# Altium footprint library ATK_DNESP32S3 V1.0.PcbLib: 41 footprints (part 2 of 3)
Each footprint in its own frame and in the unit in brackets; x right, y up, seen from the top. Pads: shape width x height; smd on the part's side, far side on the other; paste and mask are expansions set on the pad; w line width, h text height; cw(c..) or ccw(c..) is an arc to the next point about the centre after c.
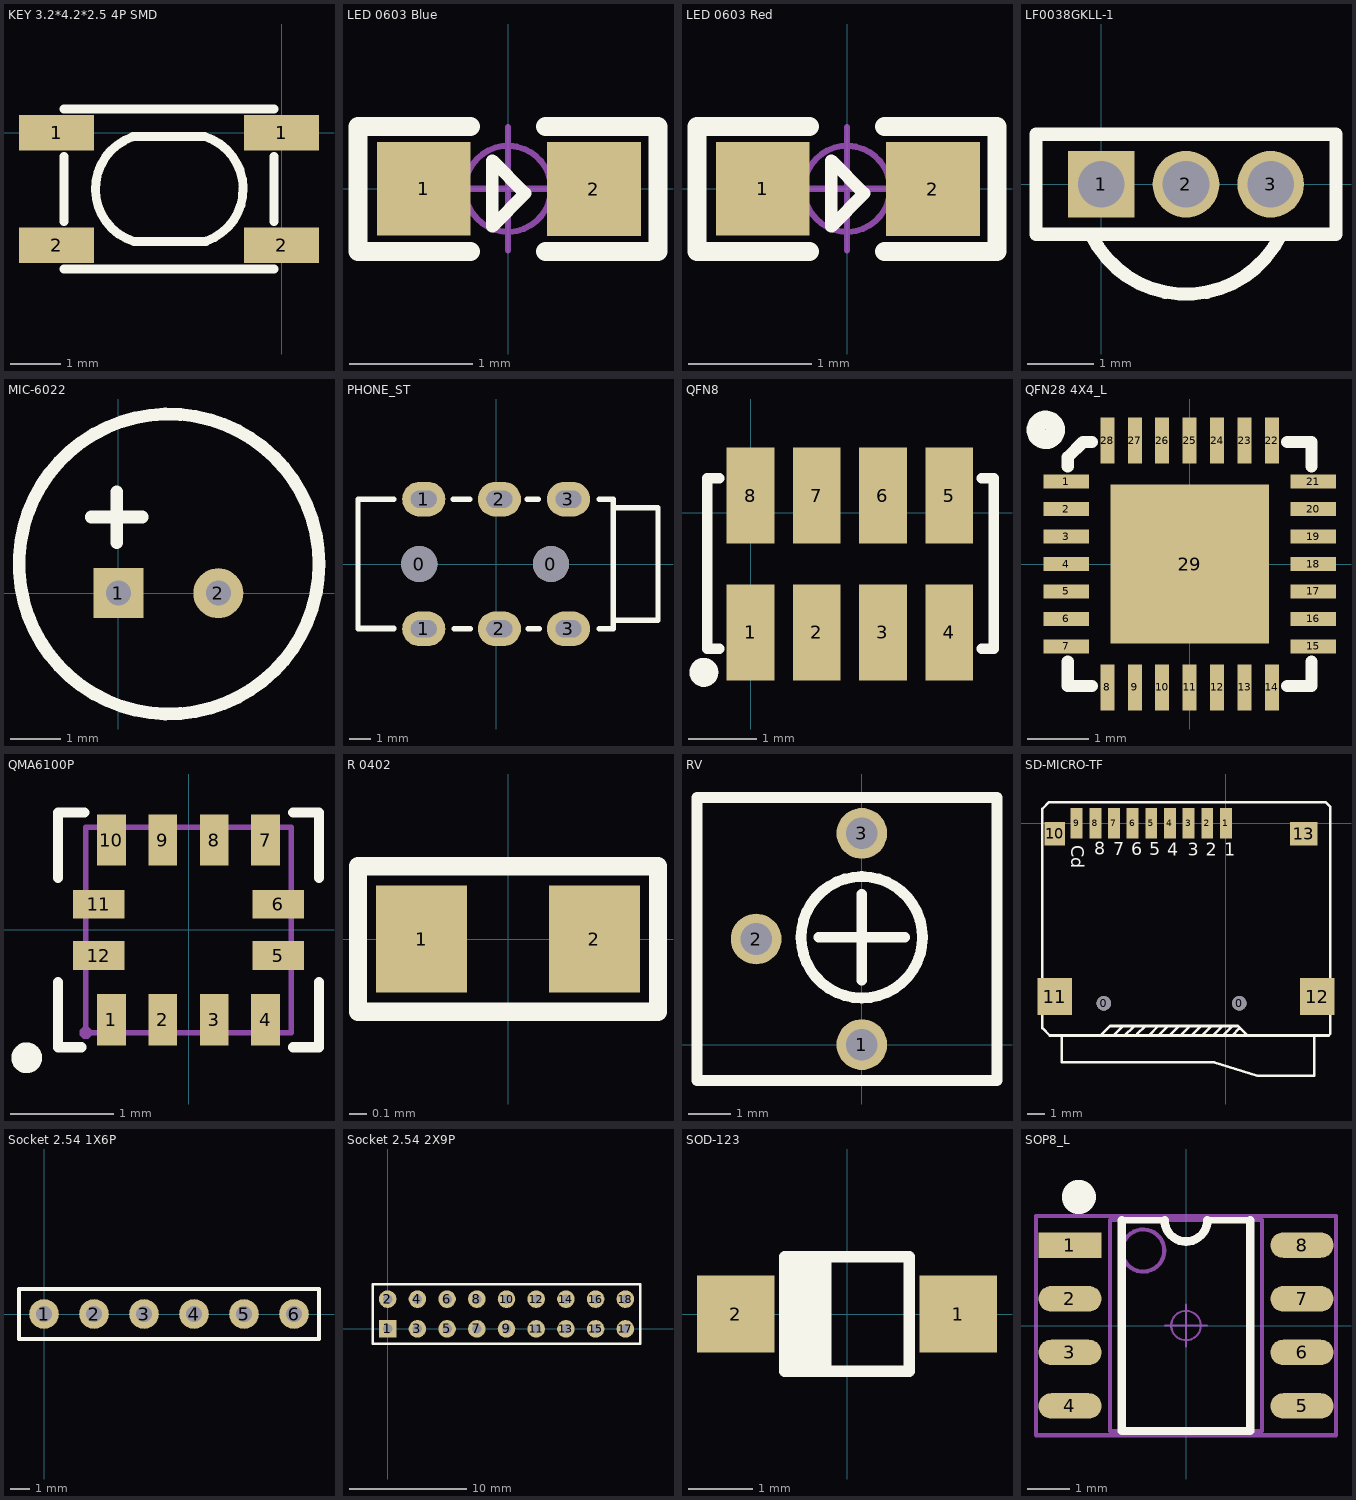
[diagram p1: the footprints below, top view; thin cyan lines are the x and y axes]

## KEY 3.2*4.2*2.5 4P SMD [mm] "轻触开关 椭圆形按键 3.2*4.2*2.5mm 4P 贴片"
height 1.6
pads (4):
  rect 1.5x0.7 smd: 1(-4.5,0) 1(0,0) 2(-4.5,-2.25) 2(0,-2.25)
Top Overlay:
  lines w0.178: -4.35,-2.725 -0.15,-2.725 ; -4.35,-1.775 -4.35,-0.475 ; -4.35,0.475 -0.15,0.475 ; -2.988,-0.088 ccw(c-2.622,-1.125) -2.95,-2.175 -1.513,-2.175 ; -2.975,-0.075 -1.538,-0.075 cw(c-1.866,-1.125) -1.5,-2.162 ; -0.15,-1.775 -0.15,-0.475

## LED 0603 Blue [mil] "蓝色0603LED"
height 62.99
pads (2):
  rect 30x30 smd: 1(-27,0) 2(27.5,-0.06)
Top Overlay:
  lines w4: -5,-12 -5,9 5.5,-1.5 -5,-12
  lines w6: -12,-20.06 -48,-20.06 -48,19.94 -12,19.94 ; 12,-20.06 48,-20.06 48,19.94 12,19.94
Mechanical 15:
  circle w1.97: c0,0 r13.78
  lines w1.97: -19.68,0 19.68,0 ; 0,-19.68 0,19.68
3D body "LED 0603玻璃罩.STEP": height 23.82, standoff 8.07, extent -23.58,-15.79 23.58,15.79
3D body "LED 0603-B.STEP": height 18.36, standoff -0.16, extent -31.49,-15.79 31.5,15.79

## LED 0603 Red [mil] "红色0603LED"
height 62.99
pads (2):
  rect 30x30 smd: 1(-27,0) 2(27.5,-0.06)
Top Overlay:
  lines w4: -5,-12 -5,9 5.5,-1.5 -5,-12
  lines w6: -12,-20.06 -48,-20.06 -48,19.94 -12,19.94 ; 12,-20.06 48,-20.06 48,19.94 12,19.94
Mechanical 15:
  circle w1.97: c0,0 r13.78
  lines w1.97: -19.68,0 19.68,0 ; 0,-19.68 0,19.68
3D body "LED 0603玻璃罩.STEP": height 23.82, standoff 8.07, extent -23.58,-15.79 23.58,15.79
3D body "LED 0603-R.STEP": height 18.34, standoff -0.16, extent -31.49,-15.78 31.5,15.8

## LF0038GKLL-1 [mm] "微型红外接收头"
height 1.6
pads (3):
  rect 1x1 hole 0.7: 1(0,0)
  round 1 hole 0.7: 2(1.27,0) 3(2.54,0)
Top Overlay:
  lines w0.2: -0.155,-0.75 ccw(c1.27,-0.072) 2.695,-0.75 ; -0.98,-0.75 -0.98,0.75 3.52,0.75 3.52,-0.75 -0.98,-0.75
3D body: height 4.3, standoff 0, extent -0.975,-0.775 3.525,0.75
3D body: height 3, standoff 0, extent 0.08,-1.723 2.47,0.673

## MIC-6022 [mm] "6mm*2.2mm"
height 2.2
pads (2):
  rect 1x1 hole 0.5: 1(0,0)
  round 1 hole 0.5: 2(2,0)
Top Overlay:
  circle w0.254: c1.013,0.584 r3
  lines w0.254: -0.54,1.524 0.476,1.524 ; -0.032,1.016 -0.032,2.032

## PHONE_ST [mm] "PHONE_ST"
height 9
pads (8):
  round 1.676 hole 1.676: 0(-3.556,0) 0(2.54,0)
  oval 2x1.6 hole 0.8 slot 1.2 at 0 deg: 1(-3.35,-3) 1(-3.35,3) 2(0.15,-3) 2(0.15,3) 3(3.35,-3) 3(3.35,3)
Top Overlay:
  lines w0.254: -6.393,-2.969 -4.742,-2.969 ; -4.742,-3.007 -6.393,-3.007 -6.393,3 -4.742,3 ; -1.986,3 -1.224,3 ; -1.948,-3.007 -1.186,-3.007 ; 1.443,3 1.951,3 ; 1.481,-3.007 1.989,-3.007 ; 4.783,-3.007 5.33,-3.007 ; 4.783,3 5.418,3 5.418,-3.007 ; 5.418,-2.6 7.493,-2.6 7.493,2.6 5.418,2.6

## QFN8 [mm] "QFN,8P,P0.97"
height 1.4
pads (8):
  rect 0.7x1.4 smd: 1(0,-1.753) 2(0.97,-1.753) 3(1.94,-1.753) 4(2.91,-1.753) 5(2.91,0.253) 6(1.94,0.253) 7(0.97,0.253) 8(0,0.253)
Top Overlay:
  circle w0.224: c-0.684,-2.337 r0.1
  lines w0.152: -0.457,-1.992 -0.635,-1.992 -0.635,0.508 -0.457,0.508 ; 3.387,-1.992 3.565,-1.992 3.565,0.508 3.387,0.508

## QFN28 4X4_L [mm] "QFN28P 长4mm，宽4mm"
height 0.8
pads (29):
  rect 0.75x0.23 smd: 1(-2.025,1.35) 2(-2.025,0.9) 3(-2.025,0.45) 4(-2.025,0) 5(-2.025,-0.45) 6(-2.025,-0.9) 7(-2.025,-1.35) 15(2.025,-1.35) 16(2.025,-0.9) 17(2.025,-0.45) 18(2.025,0) 19(2.025,0.45) 20(2.025,0.9) 21(2.025,1.35)
  rect 0.23x0.75 smd: 8(-1.35,-2.025) 9(-0.9,-2.025) 10(-0.45,-2.025) 11(0,-2.025) 12(0.45,-2.025) 13(0.9,-2.025) 14(1.35,-2.025) 22(1.35,2.025) 23(0.9,2.025) 24(0.45,2.025) 25(0,2.025) 26(-0.45,2.025) 27(-0.9,2.025) 28(-1.35,2.025)
  rect 2.6x2.6 smd: 29(0,0)
Top Overlay:
  circle w0.31: c-2.36,2.2 r0.16
  lines w0.2: -2,-1.6 -2,-2 -1.6,-2 ; -2,1.6 -2,1.75 -1.75,2 -1.6,2 ; 1.6,-2 2,-2 ; 1.6,2 2,2 2,1.6 ; 2,-2 2,-1.6 2,-2
3D body "VQFN24-EPAD.STEP": height 1.05, standoff -0.03, extent -2.05,-2.05 2.05,2.05

## QMA6100P [mm] "LGA 12-Pins, 2*2*1.1MM"
height 0.91
pads (12):
  rect 0.28x0.5 smd: 1(-0.75,-0.875) 2(-0.25,-0.875) 3(0.25,-0.875) 4(0.75,-0.875) 7(0.75,0.875) 8(0.25,0.875) 9(-0.25,0.875) 10(-0.75,0.875)
  rect 0.5x0.28 smd: 5(0.875,-0.25) 6(0.875,0.25) 11(-0.875,0.25) 12(-0.875,-0.25)
Top Overlay:
  circle w0.15: c-1.575,-1.245 r0.075
  lines w0.1: -1.27,-0.508 -1.27,-1.143 -1.044,-1.143 ; -1.27,0.508 -1.27,1.143 -1.016,1.143 ; 1.016,-1.143 1.27,-1.143 1.27,-0.508 ; 1.016,1.143 1.27,1.143 1.27,0.508
Mechanical 15:
  region: -0.94,-1 -0.94,-0.975 -0.975,-0.94 -1.025,-0.94 -1.06,-0.975 -1.06,-1 -1.06,-1.025 -1.025,-1.06 -0.975,-1.06 -0.94,-1.025
  lines w0.051: -1,-1 1,-1 1,1 -1,1 -1,-1
3D body "User Library-lga-2x2x0_9.STEP": height 0.95, standoff 0, extent -1,-1 1,1

## R 0402 [mil] "1/16W贴片电阻"
height 322.83
pads (2):
  rect 20x23.62 smd mask+2: 1(-19,0) 2(19,0)
Top Overlay:
  lines w4: 7,-16 33,-16 33,16 7,16 ; 8,16 -33,16 -33,-16 9,-16
3D body "R0402.STEP": height 13.78, standoff 0, extent -19.69,-9.84 19.69,9.84

## RV [mm]
height 1.6
pads (3):
  round 1.2 hole 0.75: 1(0,0) 2(-2.5,2.5) 3(0,5)
Top Overlay:
  circle w0.254: c0,2.54 r1.437
  lines w0.254: -1.016,2.54 1.016,2.54 ; 0,1.524 0,3.556 ; -3.9,-0.85 3.2,-0.85 3.2,5.85 0,5.85 -3.9,5.85 -3.9,-0.85

## SD-MICRO-TF [mm] "TF卡座"
height 1.6
pads (15):
  round 0.85 hole 0.85 unplated: 0(-7.2,-10.627) 0(0.8,-10.627)
  rect 0.7x1.8 smd: 1(0,0) 2(-1.1,0) 3(-2.2,0) 4(-3.3,0) 5(-4.4,0) 6(-5.5,0) 7(-6.6,0) 8(-7.7,0) 9(-8.8,0)
  rect 1.2x1.4 smd: 10(-10.1,-0.627)
  rect 2.032x2.2 smd: 11(-10.1,-10.227) 12(5.4,-10.227)
  rect 1.6x1.4 smd: 13(4.6,-0.627)
Top Overlay:
  lines w0.152: -9.677,-12.522 -9.677,-14.097 -0.686,-14.097 ; -6.629,-12.522 -6.096,-11.989 -6.096,-11.963 ; -5.969,-12.522 -5.461,-12.014 -5.461,-11.963 ; -5.232,-12.522 -5.232,-12.446 -4.75,-11.963 ; -4.547,-12.522 -3.988,-11.963 -3.962,-11.963 ; -3.962,-12.522 -3.429,-11.989 -3.429,-11.963 ; -3.327,-12.522 -2.769,-11.963 -2.667,-11.963 ; -2.667,-12.522 -2.108,-11.963 -2.083,-11.963 ; -2.032,-12.522 -1.499,-11.989 -1.499,-11.963 ; -1.397,-12.522 -0.838,-11.963 -0.711,-11.963 ; -0.762,-12.522 -0.203,-11.963 -0.178,-11.963 ; -0.711,-14.097 1.854,-14.91 5.207,-14.91 5.207,-12.548 ; -0.178,-12.522 0.381,-11.963 ; 0.381,-12.522 0.787,-12.116 0.864,-12.116 ; -10.389,-12.522 -10.82,-12.09 -10.82,0.855 -10.425,1.25 5.875,1.25 6.172,0.953 6.172,-12.421 6.071,-12.522 ; -10.389,-12.522 6.071,-12.522 ; -10.389,-12.522 -7.391,-12.522 -6.833,-11.963 0.711,-11.963 1.27,-12.522 6.071,-12.522
  text "Cd" at -9.119,-1.295 h0.76
  text "8" at -7.772,-1.854 h0.76
  text "7" at -6.655,-1.88 h0.76
  text "6" at -5.588,-1.88 h0.76
  text "5" at -4.521,-1.88 h0.76
  text "4" at -3.454,-1.905 h0.76
  text "3" at -2.261,-1.905 h0.76
  text "2" at -1.194,-1.905 h0.76
  text "1" at -0.102,-1.93 h0.76
3D body "sdcard.STEP": height 1.8, standoff -0.7, extent -10.372,-14.852 5.902,0.342

## Socket 2.54 1X6P [mm] "排座(1*6P,2.54,直插)"
pads (6):
  round 1.5 hole 0.8: 1(0,0) 2(2.54,0) 3(5.08,0) 4(7.62,0) 5(10.16,0) 6(12.7,0)
Top Overlay:
  lines w0.2: -1.27,-1.27 13.97,-1.27 13.97,1.27 -1.27,1.27 -1.27,-1.27
3D body "HDR2.54-1P_M.STEP": height 8.5, standoff -3, extent 3.81,-1.27 6.35,1.27
3D body "HDR2.54-1P_M.STEP": height 8.5, standoff -3, extent -1.27,-1.27 1.27,1.27
3D body "HDR2.54-1P_M.STEP": height 8.5, standoff -3, extent 1.27,-1.27 3.81,1.27
3D body "HDR2.54-1P_M.STEP": height 8.5, standoff -3, extent 11.43,-1.27 13.97,1.27
3D body "HDR2.54-1P_M.STEP": height 8.5, standoff -3, extent 6.35,-1.27 8.89,1.27
3D body "HDR2.54-1P_M.STEP": height 8.5, standoff -3, extent 8.89,-1.27 11.43,1.27

## Socket 2.54 2X9P [mm] "排座(2*9P,2.54,直插)"
pads (18):
  rect 1.5x1.5 hole 0.8: 1(0,0)
  round 1.5 hole 0.8: 2(0,2.54) 3(2.54,0) 4(2.54,2.54) 5(5.08,0) 6(5.08,2.54) 7(7.62,0) 8(7.62,2.54) 9(10.16,0) 10(10.16,2.54) 11(12.7,0) 12(12.7,2.54) 13(15.24,0) 14(15.24,2.54) 15(17.78,0) 16(17.78,2.54) 17(20.32,0) 18(20.32,2.54)
Top Overlay:
  lines w0.2: -1.27,-1.27 -1.27,3.81 21.59,3.81 21.59,-1.27 -1.27,-1.27
3D body "HDR2.54-1P_M.STEP": height 8.5, standoff -3, extent 19.05,1.27 21.59,3.81
3D body "HDR2.54-1P_M.STEP": height 8.5, standoff -3, extent 19.05,-1.27 21.59,1.27
3D body "HDR2.54-1P_M.STEP": height 8.5, standoff -3, extent 16.51,1.27 19.05,3.81
3D body "HDR2.54-1P_M.STEP": height 8.5, standoff -3, extent 16.51,-1.27 19.05,1.27
3D body "HDR2.54-1P_M.STEP": height 8.5, standoff -3, extent 13.97,1.27 16.51,3.81
3D body "HDR2.54-1P_M.STEP": height 8.5, standoff -3, extent 13.97,-1.27 16.51,1.27
3D body "HDR2.54-1P_M.STEP": height 8.5, standoff -3, extent 11.43,1.27 13.97,3.81
3D body "HDR2.54-1P_M.STEP": height 8.5, standoff -3, extent 11.43,-1.27 13.97,1.27
3D body "HDR2.54-1P_M.STEP": height 8.5, standoff -3, extent 8.89,1.27 11.43,3.81
3D body "HDR2.54-1P_M.STEP": height 8.5, standoff -3, extent 8.89,-1.27 11.43,1.27
3D body "HDR2.54-1P_M.STEP": height 8.5, standoff -3, extent 6.35,1.27 8.89,3.81
3D body "HDR2.54-1P_M.STEP": height 8.5, standoff -3, extent 6.35,-1.27 8.89,1.27
3D body "HDR2.54-1P_M.STEP": height 8.5, standoff -3, extent 3.81,1.27 6.35,3.81
3D body "HDR2.54-1P_M.STEP": height 8.5, standoff -3, extent 3.81,-1.27 6.35,1.27
3D body "HDR2.54-1P_M.STEP": height 8.5, standoff -3, extent 1.27,1.27 3.81,3.81
3D body "HDR2.54-1P_M.STEP": height 8.5, standoff -3, extent 1.27,-1.27 3.81,1.27
3D body "HDR2.54-1P_M.STEP": height 8.5, standoff -3, extent -1.27,1.27 1.27,3.81
3D body "HDR2.54-1P_M.STEP": height 8.5, standoff -3, extent -1.27,-1.27 1.27,1.27

## SOD-123 [mm]
height 1
pads (2):
  rect 1.2x1.2 smd: 1(1.73,0) 2(-1.73,0)
Top Overlay:
  rectangle: -0.968,-0.889 -0.333,0.889
  lines w0.178: -0.333,-0.889 -0.333,0.889 ; -0.968,-0.889 0.968,-0.889 0.968,-0.445 0.968,0.445 0.968,0.889 -0.968,0.889 -0.968,-0.889

## SOP8_L [mm] "5*6*1.8mm（长宽高）"
height 1.75
pads (8):
  rect 1.5x0.6 smd: 1(-2.75,1.905)
  oval 1.5x0.6 smd: 2(-2.75,0.635) 3(-2.75,-0.635) 4(-2.75,-1.905) 5(2.75,-1.905) 6(2.75,-0.635) 7(2.75,0.635) 8(2.75,1.905)
Top Overlay:
  circle w0.5: c-2.54,3.048 r0.155
  lines w0.152: -1.524,2.5 -0.508,2.5 ; 0.508,2.5 1.524,2.5
  lines w0.2: -1.524,2.5 -1.524,-2.5 1.524,-2.5 1.524,2.5
  lines w0.203: -0.508,2.5 ccw(c0,2.5) 0,1.992 ccw(c0,2.5) 0.508,2.5
Mechanical 13:
  circle w0.1: c-1.016,1.778 r0.5
  lines w0.1: -1.8,-2.5 -1.8,2.5 1.8,2.5 1.8,-2.5 -1.8,-2.5
Mechanical 15:
  circle w0.05: c0,0 r0.35
  lines w0.05: -0.5,0 0.5,0 ; 0,-0.5 0,0.5
  lines w0.1: -3.556,-2.6 -3.556,2.6 3.556,2.6 3.556,-2.6 -3.556,-2.6
3D body "SOP8.STEP": height 1.9, standoff 0, extent -3.003,-2.5 3.003,2.5